# Altium footprint library chinook_lib_footprint_rotor.PcbLib: 25 footprints (part 2 of 2)
Each footprint in its own frame and in the unit in brackets; x right, y up, seen from the top. Pads: shape width x height; smd on the part's side, far side on the other; paste and mask are expansions set on the pad; w line width, h text height; cw(c..) or ccw(c..) is an arc to the next point about the centre after c.
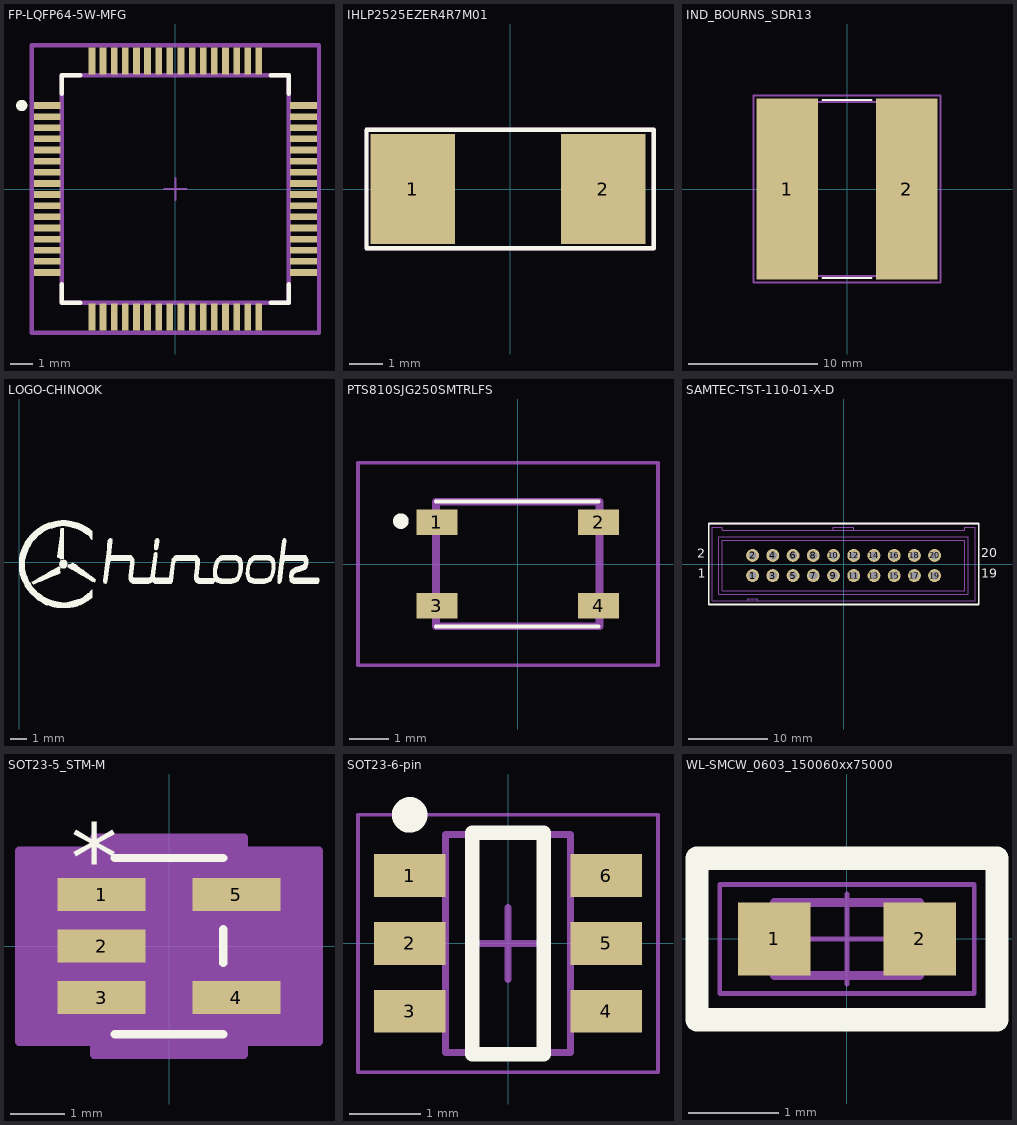
[diagram p1: the footprints below, top view; thin cyan lines are the x and y axes]

## FP-LQFP64-5W-MFG [mm]
pads (64):
  rect 1.2x0.3 smd paste+0 mask+0: 1(-5.75,3.75) 2(-5.75,3.25) 3(-5.75,2.75) 4(-5.75,2.25) 5(-5.75,1.75) 6(-5.75,1.25) 7(-5.75,0.75) 8(-5.75,0.25) 9(-5.75,-0.25) 10(-5.75,-0.75) 11(-5.75,-1.25) 12(-5.75,-1.75) 13(-5.75,-2.25) 14(-5.75,-2.75) 15(-5.75,-3.25) 16(-5.75,-3.75) 33(5.75,-3.75) 34(5.75,-3.25) 35(5.75,-2.75) 36(5.75,-2.25) 37(5.75,-1.75) 38(5.75,-1.25) 39(5.75,-0.75) 40(5.75,-0.25) 41(5.75,0.25) 42(5.75,0.75) 43(5.75,1.25) 44(5.75,1.75) 45(5.75,2.25) 46(5.75,2.75) 47(5.75,3.25) 48(5.75,3.75)
  rect 0.3x1.2 smd paste+0 mask+0: 17(-3.75,-5.75) 18(-3.25,-5.75) 19(-2.75,-5.75) 20(-2.25,-5.75) 21(-1.75,-5.75) 22(-1.25,-5.75) 23(-0.75,-5.75) 24(-0.25,-5.75) 25(0.25,-5.75) 26(0.75,-5.75) 27(1.25,-5.75) 28(1.75,-5.75) 29(2.25,-5.75) 30(2.75,-5.75) 31(3.25,-5.75) 32(3.75,-5.75) 49(3.75,5.75) 50(3.25,5.75) 51(2.75,5.75) 52(2.25,5.75) 53(1.75,5.75) 54(1.25,5.75) 55(0.75,5.75) 56(0.25,5.75) 57(-0.25,5.75) 58(-0.75,5.75) 59(-1.25,5.75) 60(-1.75,5.75) 61(-2.25,5.75) 62(-2.75,5.75) 63(-3.25,5.75) 64(-3.75,5.75)
Top Overlay:
  circle w0.25: c-6.9,3.75 r0.125
  lines w0.2: -5.1,-4.275 -5.1,-5.1 -4.275,-5.1 ; -5.1,4.275 -5.1,5.1 -4.275,5.1 ; 4.275,-5.1 5.1,-5.1 5.1,-4.275 ; 4.275,5.1 5.1,5.1 5.1,4.275
Top 3D Body:
  lines w0.2: -5.1,-5.1 -5.1,5.1 5.1,5.1 5.1,-5.1 -5.1,-5.1
Top Courtyard:
  lines w0.2: -6.45,-6.45 -6.45,6.45 6.45,6.45 6.45,-6.45 -6.45,-6.45
Top Assembly:
  lines w0.2: -6.45,-6.45 -6.45,6.45 6.45,6.45 6.45,-6.45 -6.45,-6.45
  text ".Designator" at 0,0.187 h1
Top Component Center:
  lines w0.1: -0.5,0 0.5,0 ; 0,-0.5 0,0.5

## IHLP2525EZER4R7M01 [mil]
pads (2):
  rect 100x130 smd: 1(-115,0) 2(110,0)
Top Overlay:
  lines w5: -170,-70 170,-70 170,70 -170,70 -170,-70
Top Component Center:
  lines w5: -170,-70 170,-70 170,70 -170,70 -170,-70
3D body: height 10, standoff 0, extent -158.4,-60 160,60

## IND_BOURNS_SDR13 [mil]
pads (2):
  rect 187x551 smd: 1(-182,0) 2(182,0)
Top Overlay:
  lines w6: -75.4,-271 75.4,-271 ; -75.4,271 75.4,271
Mechanical 1:
  lines w1: -266,-133 -266,133 -133,266 133,266 266,133 266,-133 133,-266 -133,-266 -266,-133
  text "*" at -246,0 h31.25
Top Component Center:
  lines w6: -285.5,-285.5 -285.5,285.5 285.5,285.5 285.5,-285.5 -285.5,-285.5 ; -266,-266 -266,266 266,266 266,-266 -266,-266
3D body "SDR1307.STP": height 275.59, standoff 0, extent -255.9,-255.9 255.91,255.91

## LOGO-CHINOOK [mm]
Top Overlay:
  drawing of 9 lines, arcs and shapes, not listed

## PTS810SJG250SMTRLFS [mm]
pads (4):
  rect 1.05x0.65 smd: 1(-2.075,1.075) 2(2.075,1.075) 3(-2.075,-1.075) 4(2.075,-1.075)
Top Overlay:
  lines w0.1: -2.1,-1.6 2.075,-1.6 ; -2.1,1.6 2.075,1.6
  lines w0.2: -3,1 cw(c-3,1.1) -3,1.2 cw(c-3,1.1) -3,1
Mechanical 13:
  lines w0.1: -4.1,-2.6 -4.1,2.6 3.6,2.6 3.6,-2.6 -4.1,-2.6
  lines w0.2: -2.1,-1.6 -2.1,1.6 2.1,1.6 2.1,-1.6 -2.1,-1.6
3D body "PTS810 SJK 250 SMTR LFS--3DModel-STEP-56544.STEP": height 2.7, standoff 0, extent -2.233,-1.623 2.367,1.577

## SAMTEC-TST-110-01-X-D [mm]
pads (20):
  round 1.62 / inner round 1.524 / far side round 1.62 hole 1.02: 1(-11.43,-1.46) 2(-11.43,1.08) 3(-8.89,-1.46) 4(-8.89,1.08) 5(-6.35,-1.46) 6(-6.35,1.08) 7(-3.81,-1.46) 8(-3.81,1.08) 9(-1.27,-1.46) 10(-1.27,1.08) 11(1.27,-1.46) 12(1.27,1.08) 13(3.81,-1.46) 14(3.81,1.08) 15(6.35,-1.46) 16(6.35,1.08) 17(8.89,-1.46) 18(8.89,1.08) 19(11.43,-1.46) 20(11.43,1.08)
Top Overlay:
  lines w0.2: -16.96,-5.086 -16.96,5.086 16.96,5.086 16.96,-5.086 -16.96,-5.086
  text "2" at -18.415,0.381 h1.97
  text "20" at 17.301,0.444 h1.97
  text "1" at -18.33,-2.096 h1.97
  text "19" at 17.301,-2.096 h1.97
Top Solder:
  circle w0: c11.43,1.08 r0.861
  circle w0: c11.43,-1.46 r0.861
  circle w0: c8.89,1.08 r0.861
  circle w0: c8.89,-1.46 r0.861
  circle w0: c6.35,1.08 r0.861
  circle w0: c6.35,-1.46 r0.861
  circle w0: c3.81,1.08 r0.861
  circle w0: c3.81,-1.46 r0.861
  circle w0: c1.27,1.08 r0.861
  circle w0: c1.27,-1.46 r0.861
  circle w0: c-1.27,1.08 r0.861
  circle w0: c-1.27,-1.46 r0.861
  circle w0: c-3.81,1.08 r0.861
  circle w0: c-3.81,-1.46 r0.861
  circle w0: c-6.35,1.08 r0.861
  circle w0: c-6.35,-1.46 r0.861
  circle w0: c-8.89,1.08 r0.861
  circle w0: c-8.89,-1.46 r0.861
  circle w0: c-11.43,1.08 r0.861
  circle w0: c-11.43,-1.46 r0.861
Bottom Solder:
  circle w0: c11.43,1.08 r0.861
  circle w0: c11.43,-1.46 r0.861
  circle w0: c8.89,1.08 r0.861
  circle w0: c8.89,-1.46 r0.861
  circle w0: c6.35,1.08 r0.861
  circle w0: c6.35,-1.46 r0.861
  circle w0: c3.81,1.08 r0.861
  circle w0: c3.81,-1.46 r0.861
  circle w0: c1.27,1.08 r0.861
  circle w0: c1.27,-1.46 r0.861
  circle w0: c-1.27,1.08 r0.861
  circle w0: c-1.27,-1.46 r0.861
  circle w0: c-3.81,1.08 r0.861
  circle w0: c-3.81,-1.46 r0.861
  circle w0: c-6.35,1.08 r0.861
  circle w0: c-6.35,-1.46 r0.861
  circle w0: c-8.89,1.08 r0.861
  circle w0: c-8.89,-1.46 r0.861
  circle w0: c-11.43,1.08 r0.861
  circle w0: c-11.43,-1.46 r0.861
Top Courtyard:
  drawing of 162 lines, arcs and shapes, not listed
  text "20" at 17.301,0.444 h1.97
  text "19" at 17.301,-2.096 h1.97
  text "2" at -18.415,0.381 h1.97
  text "1" at -18.33,-2.096 h1.97
Mechanical 32:
  lines w0.1: -16.96,-5.086 16.96,-5.086 16.96,5.086 -16.96,5.086 -16.96,-5.086

## SOT23-5_STM-M [mil]
pads (5):
  rect 64x24 smd paste+0 mask+0: 1(-49,37.4) 2(-49,0) 3(-49,-37.4) 4(49,-37.4) 5(49,37.4)
Top Overlay:
  lines w6: -39.5,-64 39.5,-64 ; -39.5,64 39.5,64 ; 39.5,-12.3 39.5,12.3
  text "*" at -71.5,39.4 h50
Mechanical 13:
  lines w1: -59,-47.4 -34.5,-47.4 -34.5,-27.4 -59,-27.4 -59,-47.4 ; -59,-10 -34.5,-10 -34.5,10 -59,10 -59,-10 ; -59,27.4 -34.5,27.4 -34.5,47.4 -59,47.4 -59,27.4 ; -34.5,-59 -34.5,59 34.5,59 34.5,-59 -34.5,-59 ; 34.5,-47.4 59,-47.4 59,-27.4 34.5,-27.4 34.5,-47.4 ; 34.5,27.4 59,27.4 59,47.4 34.5,47.4 34.5,27.4
  text "*" at -37,19.4 h50
Mechanical 15:
  region: 54.5,-79 -54.5,-79 -54.5,-69.4 -109,-69.4 -109,69.4 -54.5,69.4 -54.5,79 54.5,79 54.5,69.4 109,69.4 109,-69.4 54.5,-69.4
  lines w6: -109,-69.4 -109,69.4 -54.5,69.4 -54.5,79 54.5,79 54.5,69.4 109,69.4 109,-69.4 54.5,-69.4 54.5,-79 -54.5,-79 -54.5,-69.4 -109,-69.4
3D body "SOT23-5_STM.step": height 57.09, standoff 0, extent -59.02,-59.02 59.02,59.02

## SOT23-6-pin [mm] "SOT23, 6-Leads, Body 2.90x2.80mm, Pitch 0.95mm, IPC Medium Density"
height 1.45
pads (6):
  rect 1x0.6 smd: 1(-1.375,0.95) 2(-1.375,0) 3(-1.375,-0.95) 4(1.375,-0.95) 5(1.375,0) 6(1.375,0.95)
Top Overlay:
  circle w0.25: c-1.375,1.8 r0.125
  lines w0.2: -0.5,-1.55 0.5,-1.55 0.5,1.55 -0.5,1.55 -0.5,-1.55
Mechanical 13:
  lines w0.1: -0.875,-1.525 -0.875,1.525 0.875,1.525 0.875,-1.525 -0.875,-1.525
Mechanical 15:
  lines w0.05: -2.1,-1.8 -2.1,1.8 2.1,1.8 2.1,-1.8 -2.1,-1.8
  lines w0.1: -0.5,0 0.5,0 ; 0,-0.5 0,0.5
3D body "SOT95P280X145-6N.step": height 1.45, standoff 0, extent -1.5,-1.525 1.5,1.525

## WL-SMCW_0603_150060xx75000 [mm] "SMD Mono-color Chip LED, body 1.6x0.8mm"
height 0.7
pads (2):
  rect 0.8x0.8 smd: 1(-0.8,0) 2(0.8,0)
Top Overlay:
  lines w0.254: -1.651,-0.889 1.651,-0.889 1.651,0.889 -1.651,0.889 -1.651,0 -1.651,-0.889
Top Courtyard:
  lines w0.05: -0.5,0 0.5,0 ; 0,-0.5 0,0.5 ; -1.4,-0.6 1.4,-0.6 1.4,0.6 -1.4,0.6 -1.4,-0.6
Top Designator:
  text ".Designator" at -2.499,-0.167 h0.5
Top Component Outline:
  rectangle: -0.8,-0.4 -0.5,0.4
  lines w0.1: -0.8,-0.4 0.8,-0.4 0.8,0.4 -0.8,0.4 -0.8,-0.4
3D body "150060xxx.stp": height 0.7, standoff 0, extent -0.8,-0.4 0.8,0.4